# EAGLE library part JST_6PIN (library microbuilder)
JST 6-Pin Right-Angle Connector
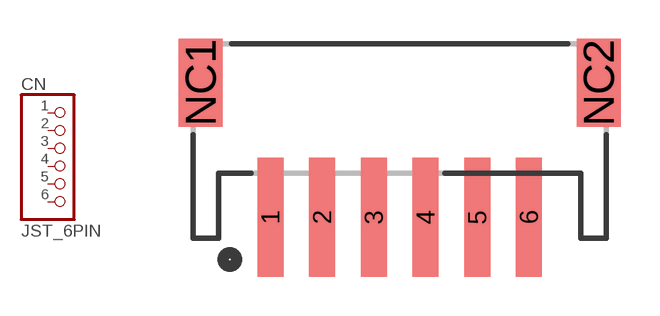
[diagram p66: symbol with the pads of JSTPH6; footprint JSTPH6]

Designator prefix CN

## JST_6PIN  [JSTPH6]
1  1  pas
2  2  pas
3  3  pas
4  4  pas
5  5  pas
6  6  pas

## Footprint JSTPH6 (pad centres in mm)
smd 1 x 4.6: 1 -5,-3.7; 2 -3,-3.7; 3 -1,-3.7; 4 1,-3.7; 5 3,-3.7; 6 5,-3.7
smd 1.7 x 3.4: NC1 -7.7,1.5; NC2 7.7,1.5